# Altium footprint library 1210_C.PcbLib: 1 footprints
Each footprint in its own frame and in the unit in brackets; x right, y up, seen from the top. Pads: shape width x height; smd on the part's side, far side on the other; paste and mask are expansions set on the pad; w line width, h text height; cw(c..) or ccw(c..) is an arc to the next point about the centre after c.
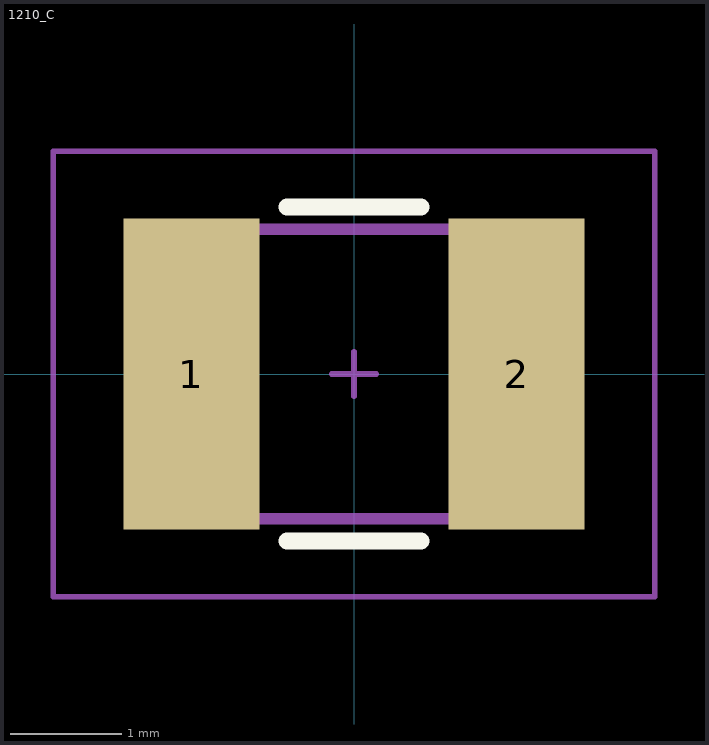
[diagram p0: the footprint, top view; thin cyan lines are the x and y axes]

## 1210_C [mil]
pads (2):
  rect 48x110 smd: 1(-57.5,0) 2(57.5,0)
Top Overlay:
  lines w6: -23.62,-59.06 23.62,-59.06 ; -23.62,59.06 23.62,59.06
Mechanical 13:
  lines w3.94: -51.18,-51.18 -51.18,-47.24 -51.18,51.18 ; 51.18,-51.18 51.18,51.18 ; -62.99,-51.18 -62.99,51.18 62.99,51.18 62.99,-51.18 -62.99,-51.18
Mechanical 15:
  lines w1.97: 0,-7.87 0,7.87 ; -7.87,0 0,0 7.87,0 ; -7.87,0 -7.87,0 ; 7.87,0 7.87,0 ; -106.3,-78.74 -106.3,78.74 106.3,78.74 106.3,-78.74 -106.3,-78.74
3D body: height 70.87, standoff 0, extent 51.2,-51.16 62.97,51.16
3D body: height 70.87, standoff 0, extent -62.97,-51.16 -51.2,51.16
3D body: height 70.87, standoff 0, extent -64.96,-53.15 64.96,53.15